# EAGLE library part MICRO-SD-HINGE-CONNECTOR (library BaseApp)
101-00303-68-1-ND
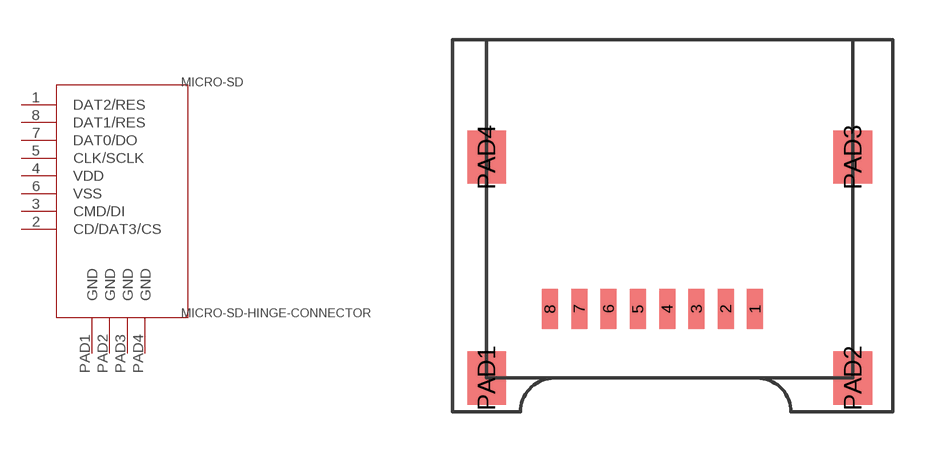
[diagram p8: symbol with the pads of MICRO-SD-HINGE-CONNECTOR; footprint MICRO-SD-HINGE-CONNECTOR]

Designator prefix MICRO-SD

## MICRO-SD-HINGE-CONNECTOR  [MICRO-SD-HINGE-CONNECTOR]
1  DAT2/RES
2  CD/DAT3/CS
3  CMD/DI
4  VDD
5  CLK/SCLK
6  VSS
7  DAT0/DO
8  DAT1/RES
PAD1  GND
PAD2  GND
PAD3  GND
PAD4  GND

## Footprint MICRO-SD-HINGE-CONNECTOR (pad centres in mm)
smd 0.6 x 1.5: 1 2.46,-3.75; 2 1.36,-3.75; 3 0.26,-3.75; 4 -0.84,-3.75; 5 -1.94,-3.75; 6 -3.04,-3.75; 7 -4.14,-3.75; 8 -5.24,-3.75
smd 1.45 x 2: PAD1 -7.62,-6.35; PAD2 6.13,-6.35; PAD3 6.13,1.95; PAD4 -7.62,1.95